# Altium schematic symbol library Connector - Coaxial.SchLib: 7 symbols
Pins are listed as number, name and electrical type; pins without a type are passive.

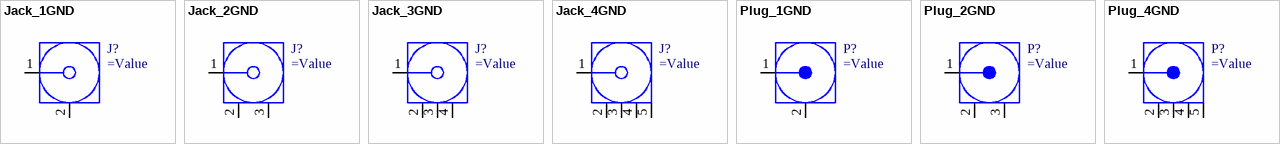
[diagram p0: symbols Jack_1GND to Plug_4GND]

## Jack_1GND
designator J?
pins: 1 Signal "Signal Pin", 2 GND

## Jack_2GND
designator J?
pins: 1 Signal "Signal Pin", 2 GND, 3 GND

## Jack_3GND
designator J?
pins: 1 Signal "Signal Pin", 2 GND, 3 GND, 4 GND

## Jack_4GND
designator J?
pins: 1 Signal "Signal Pin", 2 GND, 3 GND, 4 GND, 5 GND

## Plug_1GND
designator P?
pins: 1 Signal "Signal Pin", 2 GND

## Plug_2GND
designator P?
pins: 1 Signal "Signal Pin", 2 GND, 3 GND

## Plug_4GND
designator P?
pins: 1 Signal "Signal Pin", 2 GND, 3 GND, 4 GND, 5 GND